# Altium footprint library 电阻.PcbLib: 63 footprints (part 4 of 4)
Each footprint in its own frame and in the unit in brackets; x right, y up, seen from the top. Pads: shape width x height; smd on the part's side, far side on the other; paste and mask are expansions set on the pad; w line width, h text height; cw(c..) or ccw(c..) is an arc to the next point about the centre after c.
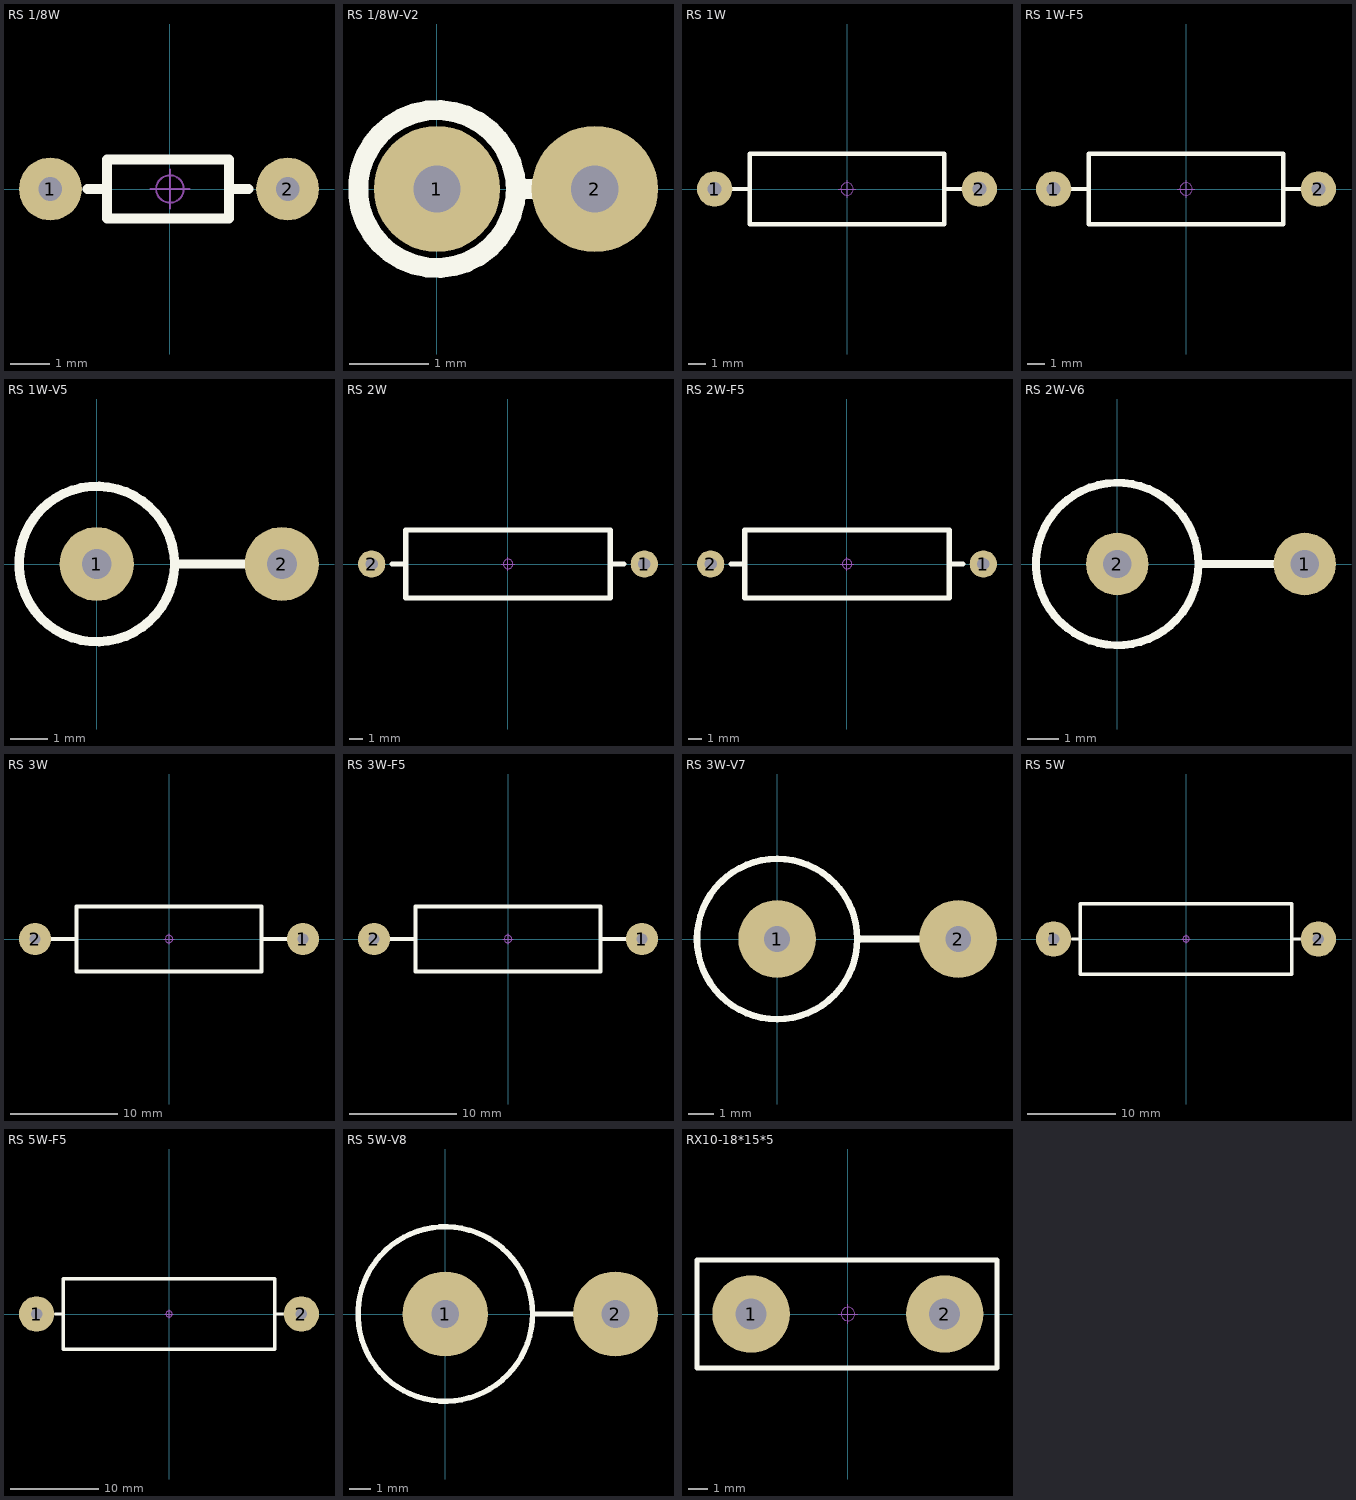
[diagram p3: the footprints below, top view; thin cyan lines are the x and y axes]

## RS 1/8W [mm] "直插色环电阻，脚距6mm，直径1.5mm"
pads (2):
  round 1.6 hole 0.6: 1(-3.048,0) 2(3,0)
Top Overlay:
  lines w0.254: -2.1,0 -1.6,0 ; 2,0 1.5,0 ; -1.6,0 -1.6,-0.75 1.5,-0.75 1.5,0 ; -1.6,0 -1.6,0.75 1.5,0.75 1.5,0
Mechanical 15:
  circle w0.05: c0,0 r0.35
  lines w0.05: -0.5,0 0.5,0 ; 0,-0.5 0,0.5
3D body "RS 1-8W.STEP": height 1.52, standoff -3.49, extent -3.225,-0.757 3.225,0.757

## RS 1/8W-V2 [mm] "直插色环电阻，脚距2mm，直径1.5mm"
pads (2):
  round 1.6 hole 0.6: 1(0,0) 2(2,0)
Top Overlay:
  circle w0.254: c0,0 r1
  lines w0.254: 1,0 2,0
Mechanical 15:
  circle w0.05: c0,0 r0.35
  lines w0.05: -0.5,0 0.5,0 ; 0,-0.5 0,0.5
3D body "RS 1-8W-V2.STEP": height 4.02, standoff -3.65, extent -0.757,-0.757 2.225,0.757

## RS 1W [mm] "直插色环电阻，脚距15mm，直径4mm"
pads (2):
  round 2 hole 0.8: 1(-7.5,0) 2(7.5,0)
Top Overlay:
  lines w0.254: -6.5,0 -5.5,0 ; 5.5,0 6.5,0 ; -5.5,-2 -5.5,2 5.5,2 5.5,-2 -5.5,-2
Mechanical 15:
  circle w0.05: c0,0 r0.35
  lines w0.05: -0.5,0 0.5,0 ; 0,-0.5 0,0.5
3D body "RS 1W.STEP": height 4.11, standoff -3.4, extent -7.8,-2.01 7.8,2.01

## RS 1W-F5 [mm] "直插色环电阻，脚距15mm，直径4mm，浮空5mm"
pads (2):
  round 2 hole 0.8: 1(-7.5,0) 2(7.5,0)
Top Overlay:
  lines w0.254: -6.5,0 -5.5,0 ; 5.5,0 6.5,0 ; -5.5,-2 5.5,-2 5.5,2 -5.5,2 -5.5,-2
Mechanical 15:
  circle w0.05: c0,0 r0.35
  lines w0.05: -0.5,0 0.5,0 ; 0,-0.5 0,0.5
3D body "RS 1W-F5.STEP": height 9.01, standoff -3.5, extent -7.8,-2.01 7.8,2.01

## RS 1W-V5 [mm] "直插色环电阻，脚距5mm，直径4mm"
pads (2):
  round 2 hole 0.8: 1(0,0) 2(5,0)
Top Overlay:
  circle w0.254: c0,0 r2.1
  lines w0.254: 2.1,0 4.2,0
Mechanical 15:
  circle w0.05: c0,0 r0.35
  lines w0.05: -0.5,0 0.5,0 ; 0,-0.5 0,0.5
3D body "RS 1W-V5.STEP": height 13.3, standoff -3.5, extent -2.01,-2.01 5.3,2.01

## RS 2W [mm] "直插色环电阻，脚距20mm，直径5mm"
pads (2):
  round 2 hole 0.9: 1(10,0) 2(-10,0)
Top Overlay:
  lines w0.381: -8.5,0 -7.5,0 ; 7.628,0 8.5,0 ; -7.5,-2.5 -7.5,2.5 7.5,2.5 7.5,-2.5 -7.5,-2.5
Mechanical 15:
  circle w0.05: c0,0 r0.35
  lines w0.05: -0.5,0 0.5,0 ; 0,-0.5 0,0.5
3D body "RS 2W.STEP": height 5.11, standoff -3.4, extent -10.4,-2.51 10.4,2.51

## RS 2W-F5 [mm] "直插色环电阻，脚距20mm，直径5mm，浮空5mm"
pads (2):
  round 2 hole 0.9: 1(10,0) 2(-10,0)
Top Overlay:
  lines w0.381: -8.5,0 -7.5,0 ; 7.628,0 8.5,0 ; -7.5,-2.5 7.5,-2.5 7.5,2.5 -7.5,2.5 -7.5,-2.5
Mechanical 15:
  circle w0.05: c0,0 r0.35
  lines w0.05: -0.5,0 0.5,0 ; 0,-0.5 0,0.5
3D body "RS 2W-F5.STEP": height 10.01, standoff -3.5, extent -10.3,-2.51 10.3,2.51

## RS 2W-V6 [mm] "直插色环电阻，脚距6mm，直径5mm"
pads (2):
  round 2 hole 0.9: 1(6,0) 2(0,0)
Top Overlay:
  circle w0.254: c0,0 r2.6
  lines w0.254: 2.6,0 5.2,0
Mechanical 15:
  circle w0.05: c0,0 r0.35
  lines w0.05: -0.5,0 0.5,0 ; 0,-0.5 0,0.5
3D body "RS 2W-V6.STEP": height 17.6, standoff -3.5, extent -2.51,-2.51 6.4,2.51

## RS 3W [mm] "直插色环电阻，脚距25mm，直径6mm"
pads (2):
  round 3 hole 1: 1(12.5,0) 2(-12.5,0)
Top Overlay:
  lines w0.381: -10.922,0 -8.636,0 ; 8.636,0 11.049,0 ; -8.636,-3.048 -8.636,3.048 8.636,3.048 8.636,-3.048 -8.636,-3.048
Mechanical 15:
  circle w0.05: c0,0 r0.35
  lines w0.05: -0.5,0 0.5,0 ; 0,-0.5 0,0.5
3D body "RS 3W.STEP": height 6.11, standoff -3.4, extent -12.9,-3.01 12.9,3.01

## RS 3W-F5 [mm] "直插色环电阻，脚距25mm，直径6mm，浮空5mm"
pads (2):
  round 3 hole 1: 1(12.5,0) 2(-12.5,0)
Top Overlay:
  lines w0.381: -10.922,0 -8.636,0 ; 8.636,0 11.049,0 ; -8.636,-3.048 -8.636,3.048 8.636,3.048 8.636,-3.048 -8.636,-3.048
Mechanical 15:
  circle w0.05: c0,0 r0.35
  lines w0.05: -0.5,0 0.5,0 ; 0,-0.5 0,0.5
3D body "RS 3W-F5.STEP": height 11.01, standoff -3.5, extent -12.9,-3.01 12.9,3.01

## RS 3W-V7 [mm] "直插色环电阻，脚距7mm，直径6mm"
pads (2):
  round 3 hole 1: 1(0,0) 2(7,0)
Top Overlay:
  circle w0.254: c0,0 r3.1
  lines w0.254: 3.1,0 6.2,0
Mechanical 15:
  circle w0.05: c0,0 r0.35
  lines w0.05: -0.5,0 0.5,0 ; 0,-0.5 0,0.5
3D body "RS 3W-V7.STEP": height 19.9, standoff -3.5, extent -3.01,-3.01 7.4,3.01

## RS 5W [mm] "直插色环电阻，脚距30mm，直径8mm"
pads (2):
  round 4 hole 1.3: 1(-15,0) 2(15,0)
Top Overlay:
  lines w0.381: -12.922,0 -12,0 ; 12,0 13,0 ; -12,-4 12,-4 12,4 -12,4 -12,-4
Mechanical 15:
  circle w0.05: c0,0 r0.35
  lines w0.05: -0.5,0 0.5,0 ; 0,-0.5 0,0.5
3D body "RS 5W.STEP": height 8.11, standoff -3.4, extent -15.5,-4.01 15.5,4.01

## RS 5W-F5 [mm] "直插色环电阻，脚距30mm，直径8mm，浮空5mm"
pads (2):
  round 4 hole 1.3: 1(-15,0) 2(15,0)
Top Overlay:
  lines w0.381: -12.922,0 -12,0 ; 12,0 13,0 ; -12,-4 12,-4 12,4 -12,4 -12,-4
Mechanical 15:
  circle w0.05: c0,0 r0.35
  lines w0.05: -0.5,0 0.5,0 ; 0,-0.5 0,0.5
3D body "RS 5W-F5.STEP": height 13.01, standoff -3.5, extent -15.4,-4.01 15.4,4.01

## RS 5W-V8 [mm] "直插色环电阻，脚距8mm，直径8mm"
pads (2):
  round 4 hole 1.3: 1(0,0) 2(8,0)
Top Overlay:
  circle w0.254: c0,0 r4.1
  lines w0.254: 4.1,0 6.25,0
Mechanical 15:
  circle w0.05: c0,0 r0.35
  lines w0.05: -0.5,0 0.5,0 ; 0,-0.5 0,0.5
3D body "RS 5W-V8.STEP": height 27.3, standoff -3.5, extent -4.01,-4.01 8.5,4.01

## RX10-18*15*5 [mm] "18*15*5MM(长*宽*厚)"
pads (2):
  round 4 hole 1.6: 1(-5,0) 2(5,0)
Top Overlay:
  lines w0.254: -7.794,-2.794 7.7,-2.794 7.7,2.794 -7.794,2.794 -7.794,-2.794
Mechanical 15:
  circle w0.05: c0,0 r0.35
  lines w0.05: -0.5,0 0.5,0 ; 0,-0.5 0,0.5
3D body "5W无感水泥电阻.STEP": height 18.05, standoff -3.45, extent -7.5,-2.501 7.5,2.5